# Altium schematic symbol library WR-TBL_Spring Clamp.SchLib: 367 symbols (part 6 of 6)
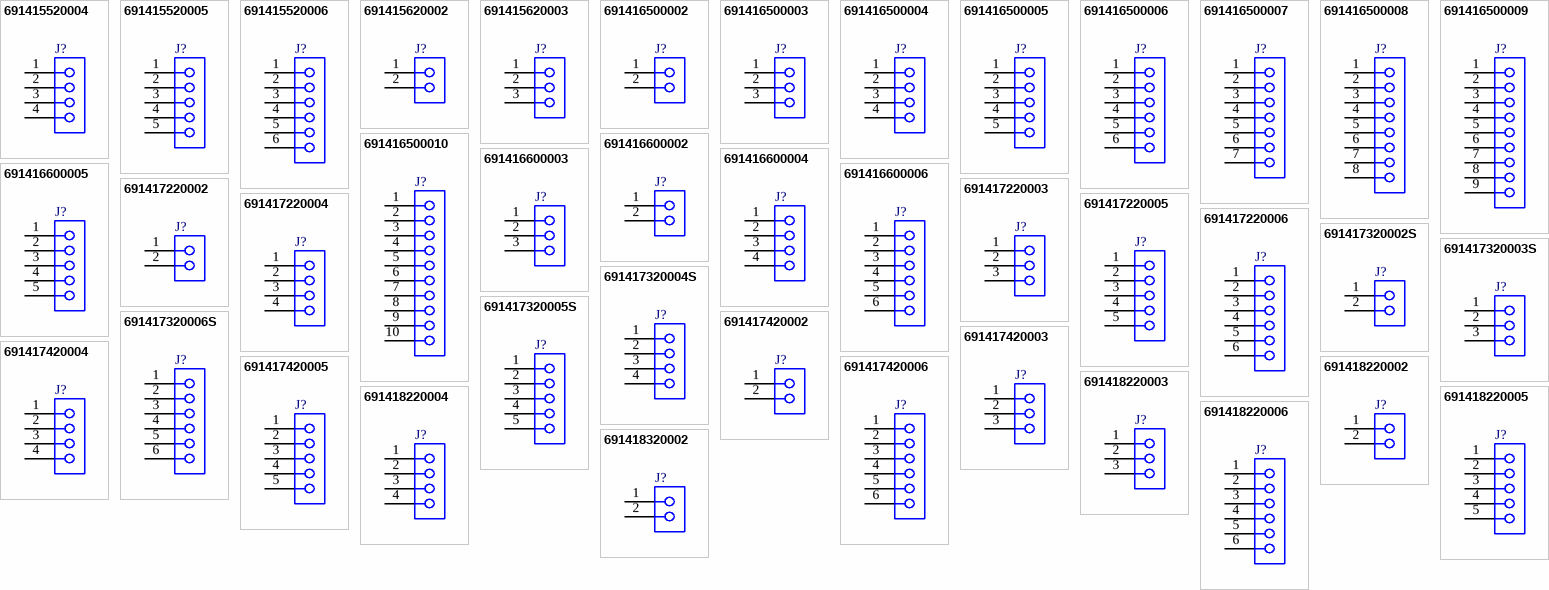
[diagram p14: symbols 691415520004 to 691418320002]

## 691417320005S
designator J?  (value not drawn)
WR-TBL Series 4173S 45° Cable Entry, THT, pitch 3.81mm, 05p; Manufacturer: Wurth Elektronik; Modularity: No; Rated Current: 4A; Wire Section: 16 to 30 (AWG) 1.31 to 0.0509 (mm^2); Working Voltage: 300V (AC); Manufacturer Part Number: 691417320005S; Product Series: WR-TBL; ComponentLink1Description: Website Link; ComponentLink1URL: https://www.we-online.com; ComponentLink2Description: Datasheet Link; ComponentLink2URL: https://www.we-online.com/components/products/datasheet/691417320005S; Mount: Through Hole; Operating Temperature Min: -30degC; Operating Temperature Max: 120degC; Packaging: Box; Application: Screwless; Number of Pins: 5; Number of Rows: 1; Orientation: 45deg; Lead Pitch: 3.81mm
footprint 691417320005S
pins: 1, 2, 3, 4, 5

## 691417320006S
designator J?  (value not drawn)
WR-TBL Series 4173S 45° Cable Entry, THT, pitch 3.81mm, 06p; Manufacturer: Wurth Elektronik; Modularity: No; Rated Current: 4A; Wire Section: 16 to 30 (AWG) 1.31 to 0.0509 (mm^2); Working Voltage: 300V (AC); Manufacturer Part Number: 691417320006S; Product Series: WR-TBL; ComponentLink1Description: Website Link; ComponentLink1URL: https://www.we-online.com; ComponentLink2Description: Datasheet Link; ComponentLink2URL: https://www.we-online.com/components/products/datasheet/691417320006S; Mount: Through Hole; Operating Temperature Min: -30degC; Operating Temperature Max: 120degC; Packaging: Box; Application: Screwless; Number of Pins: 6; Number of Rows: 1; Orientation: 45deg; Lead Pitch: 3.81mm
footprint 691417320006S
pins: 1, 2, 3, 4, 5, 6

## 691417420002
designator J?  (value not drawn)
WR-TBL Series 4174 45° Entry, THT, pitch 7.62mm, 02p; Manufacturer: Wurth Elektronik; Modularity: No; Rated Current: 4A; Wire Section: 16 to 30 (AWG) 1.31 to 0.0509 (mm^2); Working Voltage: 300V (AC); Manufacturer Part Number: 691417420002; Product Series: WR-TBL; ComponentLink1Description: Website Link; ComponentLink1URL: https://www.we-online.com; ComponentLink2Description: Datasheet Link; ComponentLink2URL: https://www.we-online.com/components/products/datasheet/691417420002; Mount: Through Hole; Operating Temperature Min: -30degC; Operating Temperature Max: 120degC; Packaging: Box; Application: Screwless; Number of Pins: 2; Number of Rows: 1; Orientation: 45deg; Lead Pitch: 7.62mm
footprint 691417420002
pins: 1, 2

## 691417420003
designator J?  (value not drawn)
WR-TBL Series 4174 45° Entry, THT, pitch 7.62mm, 03p; Manufacturer: Wurth Elektronik; Modularity: No; Rated Current: 4A; Wire Section: 16 to 30 (AWG) 1.31 to 0.0509 (mm^2); Working Voltage: 300V (AC); Manufacturer Part Number: 691417420003; Product Series: WR-TBL; ComponentLink1Description: Website Link; ComponentLink1URL: https://www.we-online.com; ComponentLink2Description: Datasheet Link; ComponentLink2URL: https://www.we-online.com/components/products/datasheet/691417420003; Mount: Through Hole; Operating Temperature Min: -30degC; Operating Temperature Max: 120degC; Packaging: Box; Application: Screwless; Number of Pins: 3; Number of Rows: 1; Orientation: 45deg; Lead Pitch: 7.62mm
footprint 691417420003
pins: 1, 2, 3

## 691417420004
designator J?  (value not drawn)
WR-TBL Series 4174 45° Entry, THT, pitch 7.62mm, 04p; Manufacturer: Wurth Elektronik; Modularity: No; Rated Current: 4A; Wire Section: 16 to 30 (AWG) 1.31 to 0.0509 (mm^2); Working Voltage: 300V (AC); Manufacturer Part Number: 691417420004; Product Series: WR-TBL; ComponentLink1Description: Website Link; ComponentLink1URL: https://www.we-online.com; ComponentLink2Description: Datasheet Link; ComponentLink2URL: https://www.we-online.com/components/products/datasheet/691417420004; Mount: Through Hole; Operating Temperature Min: -30degC; Operating Temperature Max: 120degC; Packaging: Box; Application: Screwless; Number of Pins: 4; Number of Rows: 1; Orientation: 45deg; Lead Pitch: 7.62mm
footprint 691417420004
pins: 1, 2, 3, 4

## 691417420005
designator J?  (value not drawn)
WR-TBL Series 4174 45° Entry, THT, pitch 7.62mm, 05p; Manufacturer: Wurth Elektronik; Modularity: No; Rated Current: 4A; Wire Section: 16 to 30 (AWG) 1.31 to 0.0509 (mm^2); Working Voltage: 300V (AC); Manufacturer Part Number: 691417420005; Product Series: WR-TBL; ComponentLink1Description: Website Link; ComponentLink1URL: https://www.we-online.com; ComponentLink2Description: Datasheet Link; ComponentLink2URL: https://www.we-online.com/components/products/datasheet/691417420005; Mount: Through Hole; Operating Temperature Min: -30degC; Operating Temperature Max: 120degC; Packaging: Box; Application: Screwless; Number of Pins: 5; Number of Rows: 1; Orientation: 45deg; Lead Pitch: 7.62mm
footprint 691417420005
pins: 1, 2, 3, 4, 5

## 691417420006
designator J?  (value not drawn)
WR-TBL Series 4174 45° Entry, THT, pitch 7.62mm, 06p; Manufacturer: Wurth Elektronik; Modularity: No; Rated Current: 4A; Wire Section: 16 to 30 (AWG) 1.31 to 0.0509 (mm^2); Working Voltage: 300V (AC); Manufacturer Part Number: 691417420006; Product Series: WR-TBL; ComponentLink1Description: Website Link; ComponentLink1URL: https://www.we-online.com; ComponentLink2Description: Datasheet Link; ComponentLink2URL: https://www.we-online.com/components/products/datasheet/691417420006; Mount: Through Hole; Operating Temperature Min: -30degC; Operating Temperature Max: 120degC; Packaging: Box; Application: Screwless; Number of Pins: 6; Number of Rows: 1; Orientation: 45deg; Lead Pitch: 7.62mm
footprint 691417420006
pins: 1, 2, 3, 4, 5, 6

## 691418220002
designator J?  (value not drawn)
WR-TBL Series 4182 45° Cable Entry, THT, pitch 7mm, 02p; Manufacturer: Wurth Elektronik; Modularity: No; Rated Current: 4A; Wire Section: 16 to 30 (AWG) 1.31 to 0.0509 (mm^2); Working Voltage: 300V (AC); Manufacturer Part Number: 691418220002; Product Series: WR-TBL; ComponentLink1Description: Website Link; ComponentLink1URL: https://www.we-online.com; ComponentLink2Description: Datasheet Link; ComponentLink2URL: https://www.we-online.com/components/products/datasheet/691418220002; Mount: Through Hole; Operating Temperature Min: -30degC; Operating Temperature Max: 120degC; Packaging: Box; Application: Screwless; Number of Pins: 2; Number of Rows: 1; Orientation: 45deg; Lead Pitch: 7mm
footprint 691418220002
pins: 1, 2

## 691418220003
designator J?  (value not drawn)
WR-TBL Series 4182 45° Cable Entry, THT, pitch 7mm, 03p; Manufacturer: Wurth Elektronik; Modularity: No; Rated Current: 4A; Wire Section: 16 to 30 (AWG) 1.31 to 0.0509 (mm^2); Working Voltage: 300V (AC); Manufacturer Part Number: 691418220003; Product Series: WR-TBL; ComponentLink1Description: Website Link; ComponentLink1URL: https://www.we-online.com; ComponentLink2Description: Datasheet Link; ComponentLink2URL: https://www.we-online.com/components/products/datasheet/691418220003; Mount: Through Hole; Operating Temperature Min: -30degC; Operating Temperature Max: 120degC; Packaging: Box; Application: Screwless; Number of Pins: 3; Number of Rows: 1; Orientation: 45deg; Lead Pitch: 7mm
footprint 691418220003
pins: 1, 2, 3

## 691418220004
designator J?  (value not drawn)
WR-TBL Series 4182 45° Cable Entry, THT, pitch 7mm, 04p; Manufacturer: Wurth Elektronik; Modularity: No; Rated Current: 4A; Wire Section: 16 to 30 (AWG) 1.31 to 0.0509 (mm^2); Working Voltage: 300V (AC); Manufacturer Part Number: 691418220004; Product Series: WR-TBL; ComponentLink1Description: Website Link; ComponentLink1URL: https://www.we-online.com; ComponentLink2Description: Datasheet Link; ComponentLink2URL: https://www.we-online.com/components/products/datasheet/691418220004; Mount: Through Hole; Operating Temperature Min: -30degC; Operating Temperature Max: 120degC; Packaging: Box; Application: Screwless; Number of Pins: 4; Number of Rows: 1; Orientation: 45deg; Lead Pitch: 7mm
footprint 691418220004
pins: 1, 2, 3, 4

## 691418220005
designator J?  (value not drawn)
WR-TBL Series 4182 45° Cable Entry, THT, pitch 7mm, 05p; Manufacturer: Wurth Elektronik; Modularity: No; Rated Current: 4A; Wire Section: 16 to 30 (AWG) 1.31 to 0.0509 (mm^2); Working Voltage: 300V (AC); Manufacturer Part Number: 691418220005; Product Series: WR-TBL; ComponentLink1Description: Website Link; ComponentLink1URL: https://www.we-online.com; ComponentLink2Description: Datasheet Link; ComponentLink2URL: https://www.we-online.com/components/products/datasheet/691418220005; Mount: Through Hole; Operating Temperature Min: -30degC; Operating Temperature Max: 120degC; Packaging: Box; Application: Screwless; Number of Pins: 5; Number of Rows: 1; Orientation: 45deg; Lead Pitch: 7mm
footprint 691418220005
pins: 1, 2, 3, 4, 5

## 691418220006
designator J?  (value not drawn)
WR-TBL Series 4182 45° Cable Entry, THT, pitch 7mm, 06p; Manufacturer: Wurth Elektronik; Modularity: No; Rated Current: 4A; Wire Section: 16 to 30 (AWG) 1.31 to 0.0509 (mm^2); Working Voltage: 300V (AC); Manufacturer Part Number: 691418220006; Product Series: WR-TBL; ComponentLink1Description: Website Link; ComponentLink1URL: https://www.we-online.com; ComponentLink2Description: Datasheet Link; ComponentLink2URL: https://www.we-online.com/components/products/datasheet/691418220006; Mount: Through Hole; Operating Temperature Min: -30degC; Operating Temperature Max: 120degC; Packaging: Box; Application: Screwless; Number of Pins: 6; Number of Rows: 1; Orientation: 45deg; Lead Pitch: 7mm
footprint 691418220006
pins: 1, 2, 3, 4, 5, 6

## 691418320002
designator J?  (value not drawn)
WR-TBL Series 4183 45° Cable Entry, THT, pitch 3.81mm, 02p; Manufacturer: Wurth Elektronik; Modularity: No; Rated Current: 4A; Wire Section: 16 to 30 (AWG) 1.31 to 0.0509 (mm^2); Working Voltage: 300V (AC); Manufacturer Part Number: 691418320002; Product Series: WR-TBL; ComponentLink1Description: Website Link; ComponentLink1URL: https://www.we-online.com; ComponentLink2Description: Datasheet Link; ComponentLink2URL: https://www.we-online.com/components/products/datasheet/691418320002; Mount: Through Hole; Operating Temperature Min: -30degC; Operating Temperature Max: 120degC; Packaging: Box; Application: Screwless; Number of Pins: 2; Number of Rows: 1; Orientation: 45deg; Lead Pitch: 3.81mm
footprint 691418320002
pins: 1, 2

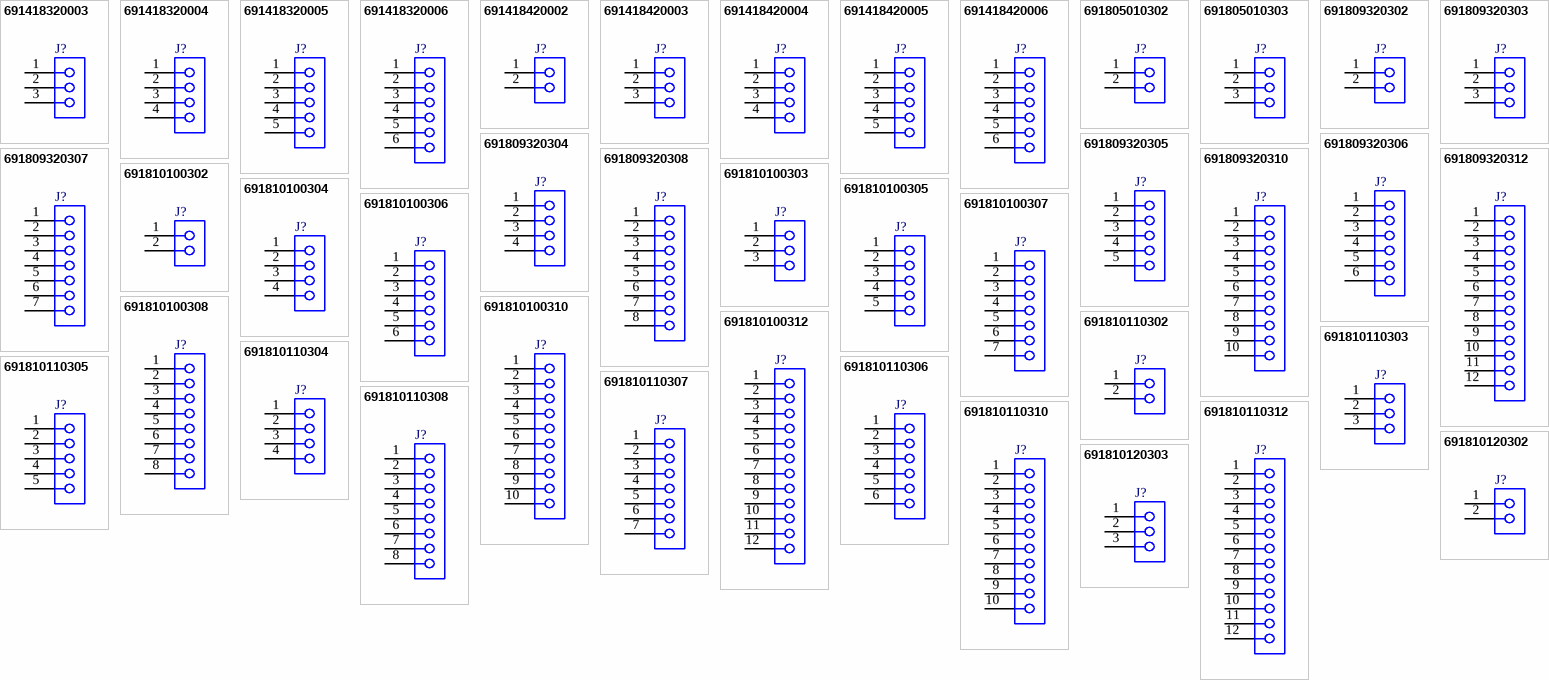
[diagram p8: symbols 691418320003 to 691810120303]

## 691418320003
designator J?  (value not drawn)
WR-TBL Series 4183 45° Cable Entry, THT, pitch 3.81mm, 03p; Manufacturer: Wurth Elektronik; Modularity: No; Rated Current: 4A; Wire Section: 16 to 30 (AWG) 1.31 to 0.0509 (mm^2); Working Voltage: 300V (AC); Manufacturer Part Number: 691418320003; Product Series: WR-TBL; ComponentLink1Description: Website Link; ComponentLink1URL: https://www.we-online.com; ComponentLink2Description: Datasheet Link; ComponentLink2URL: https://www.we-online.com/components/products/datasheet/691418320003; Mount: Through Hole; Operating Temperature Min: -30degC; Operating Temperature Max: 120degC; Packaging: Box; Application: Screwless; Number of Pins: 3; Number of Rows: 1; Orientation: 45deg; Lead Pitch: 3.81mm
footprint 691418320003
pins: 1, 2, 3

## 691418320004
designator J?  (value not drawn)
WR-TBL Series 4183 45° Cable Entry, THT, pitch 3.81mm, 04p; Manufacturer: Wurth Elektronik; Modularity: No; Rated Current: 4A; Wire Section: 16 to 30 (AWG) 1.31 to 0.0509 (mm^2); Working Voltage: 300V (AC); Manufacturer Part Number: 691418320004; Product Series: WR-TBL; ComponentLink1Description: Website Link; ComponentLink1URL: https://www.we-online.com; ComponentLink2Description: Datasheet Link; ComponentLink2URL: https://www.we-online.com/components/products/datasheet/691418320004; Mount: Through Hole; Operating Temperature Min: -30degC; Operating Temperature Max: 120degC; Packaging: Box; Application: Screwless; Number of Pins: 4; Number of Rows: 1; Orientation: 45deg; Lead Pitch: 3.81mm
footprint 691418320004
pins: 1, 2, 3, 4

## 691418320005
designator J?  (value not drawn)
WR-TBL Series 4183 45° Cable Entry, THT, pitch 3.81mm, 05p; Manufacturer: Wurth Elektronik; Modularity: No; Rated Current: 4A; Wire Section: 16 to 30 (AWG) 1.31 to 0.0509 (mm^2); Working Voltage: 300V (AC); Manufacturer Part Number: 691418320005; Product Series: WR-TBL; ComponentLink1Description: Website Link; ComponentLink1URL: https://www.we-online.com; ComponentLink2Description: Datasheet Link; ComponentLink2URL: https://www.we-online.com/components/products/datasheet/691418320005; Mount: Through Hole; Operating Temperature Min: -30degC; Operating Temperature Max: 120degC; Packaging: Box; Application: Screwless; Number of Pins: 5; Number of Rows: 1; Orientation: 45deg; Lead Pitch: 3.81mm
footprint 691418320005
pins: 1, 2, 3, 4, 5

## 691418320006
designator J?  (value not drawn)
WR-TBL Series 4183 45° Cable Entry, THT, pitch 3.81mm, 06p; Manufacturer: Wurth Elektronik; Modularity: No; Rated Current: 4A; Wire Section: 16 to 30 (AWG) 1.31 to 0.0509 (mm^2); Working Voltage: 300V (AC); Manufacturer Part Number: 691418320006; Product Series: WR-TBL; ComponentLink1Description: Website Link; ComponentLink1URL: https://www.we-online.com; ComponentLink2Description: Datasheet Link; ComponentLink2URL: https://www.we-online.com/components/products/datasheet/691418320006; Mount: Through Hole; Operating Temperature Min: -30degC; Operating Temperature Max: 120degC; Packaging: Box; Application: Screwless; Number of Pins: 6; Number of Rows: 1; Orientation: 45deg; Lead Pitch: 3.81mm
footprint 691418320006
pins: 1, 2, 3, 4, 5, 6

## 691418420002
designator J?  (value not drawn)
WR-TBL Series 4184 45° Entry, THT, pitch 7.62mm, 02p; Manufacturer: Wurth Elektronik; Modularity: No; Rated Current: 4A; Wire Section: 16 to 30 (AWG) 1.31 to 0.0509 (mm^2); Working Voltage: 300V (AC); Manufacturer Part Number: 691418420002; Product Series: WR-TBL; ComponentLink1Description: Website Link; ComponentLink1URL: https://www.we-online.com; ComponentLink2Description: Datasheet Link; ComponentLink2URL: https://www.we-online.com/components/products/datasheet/691418420002; Mount: Through Hole; Operating Temperature Min: -30degC; Operating Temperature Max: 120degC; Packaging: Box; Application: Screwless; Number of Pins: 2; Number of Rows: 1; Orientation: 45deg; Lead Pitch: 7.62mm
footprint 691418420002
pins: 1, 2

## 691418420003
designator J?  (value not drawn)
WR-TBL Series 4184 45° Entry, THT, pitch 7.62mm, 03p; Manufacturer: Wurth Elektronik; Modularity: No; Rated Current: 4A; Wire Section: 16 to 30 (AWG) 1.31 to 0.0509 (mm^2); Working Voltage: 300V (AC); Manufacturer Part Number: 691418420003; Product Series: WR-TBL; ComponentLink1Description: Website Link; ComponentLink1URL: https://www.we-online.com; ComponentLink2Description: Datasheet Link; ComponentLink2URL: https://www.we-online.com/components/products/datasheet/691418420003; Mount: Through Hole; Operating Temperature Min: -30degC; Operating Temperature Max: 120degC; Packaging: Box; Application: Screwless; Number of Pins: 3; Number of Rows: 1; Orientation: 45deg; Lead Pitch: 7.62mm
footprint 691418420003
pins: 1, 2, 3

## 691418420004
designator J?  (value not drawn)
WR-TBL Series 4184 45° Entry, THT, pitch 7.62mm, 04p; Manufacturer: Wurth Elektronik; Modularity: No; Rated Current: 4A; Wire Section: 16 to 30 (AWG) 1.31 to 0.0509 (mm^2); Working Voltage: 300V (AC); Manufacturer Part Number: 691418420004; Product Series: WR-TBL; ComponentLink1Description: Website Link; ComponentLink1URL: https://www.we-online.com; ComponentLink2Description: Datasheet Link; ComponentLink2URL: https://www.we-online.com/components/products/datasheet/691418420004; Mount: Through Hole; Operating Temperature Min: -30degC; Operating Temperature Max: 120degC; Packaging: Box; Application: Screwless; Number of Pins: 4; Number of Rows: 1; Orientation: 45deg; Lead Pitch: 7.62mm
footprint 691418420004
pins: 1, 2, 3, 4

## 691418420005
designator J?  (value not drawn)
WR-TBL Series 4184 45° Entry, THT, pitch 7.62mm, 05p; Manufacturer: Wurth Elektronik; Modularity: No; Rated Current: 4A; Wire Section: 16 to 30 (AWG) 1.31 to 0.0509 (mm^2); Working Voltage: 300V (AC); Manufacturer Part Number: 691418420005; Product Series: WR-TBL; ComponentLink1Description: Website Link; ComponentLink1URL: https://www.we-online.com; ComponentLink2Description: Datasheet Link; ComponentLink2URL: https://www.we-online.com/components/products/datasheet/691418420005; Mount: Through Hole; Operating Temperature Min: -30degC; Operating Temperature Max: 120degC; Packaging: Box; Application: Screwless; Number of Pins: 5; Number of Rows: 1; Orientation: 45deg; Lead Pitch: 7.62mm
footprint 691418420005
pins: 1, 2, 3, 4, 5

## 691418420006
designator J?  (value not drawn)
WR-TBL Series 4184 45° Entry, THT, pitch 7.62mm, 06p; Manufacturer: Wurth Elektronik; Modularity: No; Rated Current: 4A; Wire Section: 16 to 30 (AWG) 1.31 to 0.0509 (mm^2); Working Voltage: 300V (AC); Manufacturer Part Number: 691418420006; Product Series: WR-TBL; ComponentLink1Description: Website Link; ComponentLink1URL: https://www.we-online.com; ComponentLink2Description: Datasheet Link; ComponentLink2URL: https://www.we-online.com/components/products/datasheet/691418420006; Mount: Through Hole; Operating Temperature Min: -30degC; Operating Temperature Max: 120degC; Packaging: Box; Application: Screwless; Number of Pins: 6; Number of Rows: 1; Orientation: 45deg; Lead Pitch: 7.62mm
footprint 691418420006
pins: 1, 2, 3, 4, 5, 6

## 691805010302
designator J?  (value not drawn)
WR-TBL Series 7097 Horizontal Entry, SMT, pitch 2.5mm, 02p; Manufacturer: Wurth Elektronik; Modularity: No; Rated Current: 6A; Wire Section: 24 to 20 (AWG) 0.2 to 0.5 (mm^2); Working Voltage: 300V (AC); Manufacturer Part Number: 691805010302; Product Series: WR-TBL; ComponentLink1Description: Website Link; ComponentLink1URL: https://www.we-online.com; ComponentLink2Description: Datasheet Link; ComponentLink2URL: https://www.we-online.com/components/products/datasheet/691805010302; Mount: Surface Mount; Operating Temperature Min: -45degC; Operating Temperature Max: 130degC; Packaging: Tape and Reel; Application: Screwless; Number of Pins: 2; Number of Rows: 1; Orientation: Horizontal; Lead Pitch: 2.5mm
footprint 691805010302
pins: 1, 2

## 691805010303
designator J?  (value not drawn)
WR-TBL Series 7097 Horizontal Entry, SMT, pitch 2.5mm, 03p; Manufacturer: Wurth Elektronik; Modularity: No; Rated Current: 6A; Wire Section: 24 to 20 (AWG) 0.2 to 0.5 (mm^2); Working Voltage: 300V (AC); Manufacturer Part Number: 691805010303; Product Series: WR-TBL; ComponentLink1Description: Website Link; ComponentLink1URL: https://www.we-online.com; ComponentLink2Description: Datasheet Link; ComponentLink2URL: https://www.we-online.com/components/products/datasheet/691805010303; Mount: Surface Mount; Operating Temperature Min: -45degC; Operating Temperature Max: 130degC; Packaging: Tape and Reel; Application: Screwless; Number of Pins: 3; Number of Rows: 1; Orientation: Horizontal; Lead Pitch: 2.5mm
footprint 691805010303
pins: 1, 2, 3

## 691809320302
designator J?  (value not drawn)
WR-TBL Series 8093 Screwless Push In 45° cable entry, THR, pitch 3.81mm, 02p; Manufacturer: Wurth Elektronik; Modularity: Yes; Wire Section: 26 to 16 (AWG) 0.2 to 1.5 (mm^2); Manufacturer Part Number: 691809320302; Product Series: WR-TBL; ComponentLink1Description: Website Link; ComponentLink1URL: https://www.we-online.com; ComponentLink2Description: Datasheet Link; ComponentLink2URL: https://www.we-online.com/components/products/datasheet/691809320302; Mount: Through Hole Reflow; Operating Temperature Min: -40degC; Operating Temperature Max: 115degC; Packaging: Tape and Reel; Application: Screwless Push In; Number of Pins: 2; Number of Rows: 1; Orientation: 45deg Cable Entry; Lead Pitch: 3.81mm
footprint 691809320302
pins: 1, 2

## 691809320303
designator J?  (value not drawn)
WR-TBL Series 8093 Screwless Push In 45° cable entry, THR, pitch 3.81mm, 03p; Manufacturer: Wurth Elektronik; Modularity: Yes; Wire Section: 26 to 16 (AWG) 0.2 to 1.5 (mm^2); Manufacturer Part Number: 691809320303; Product Series: WR-TBL; ComponentLink1Description: Website Link; ComponentLink1URL: https://www.we-online.com; ComponentLink2Description: Datasheet Link; ComponentLink2URL: https://www.we-online.com/components/products/datasheet/691809320303; Mount: Through Hole Reflow; Operating Temperature Min: -40degC; Operating Temperature Max: 115degC; Packaging: Tape and Reel; Application: Screwless Push In; Number of Pins: 3; Number of Rows: 1; Orientation: 45deg Cable Entry; Lead Pitch: 3.81mm
footprint 691809320303
pins: 1, 2, 3

## 691809320304
designator J?  (value not drawn)
WR-TBL Series 8093 Screwless Push In 45° cable entry, THR, pitch 3.81mm, 04p; Manufacturer: Wurth Elektronik; Modularity: Yes; Wire Section: 26 to 16 (AWG) 0.2 to 1.5 (mm^2); Manufacturer Part Number: 691809320304; Product Series: WR-TBL; ComponentLink1Description: Website Link; ComponentLink1URL: https://www.we-online.com; ComponentLink2Description: Datasheet Link; ComponentLink2URL: https://www.we-online.com/components/products/datasheet/691809320304; Mount: Through Hole Reflow; Operating Temperature Min: -40degC; Operating Temperature Max: 115degC; Packaging: Tape and Reel; Application: Screwless Push In; Number of Pins: 4; Number of Rows: 1; Orientation: 45deg Cable Entry; Lead Pitch: 3.81mm
footprint 691809320304
pins: 1, 2, 3, 4

## 691809320305
designator J?  (value not drawn)
WR-TBL Series 8093 Screwless Push In 45° cable entry, THR, pitch 3.81mm, 05p; Manufacturer: Wurth Elektronik; Modularity: Yes; Wire Section: 26 to 16 (AWG) 0.2 to 1.5 (mm^2); Manufacturer Part Number: 691809320305; Product Series: WR-TBL; ComponentLink1Description: Website Link; ComponentLink1URL: https://www.we-online.com; ComponentLink2Description: Datasheet Link; ComponentLink2URL: https://www.we-online.com/components/products/datasheet/691809320305; Mount: Through Hole Reflow; Operating Temperature Min: -40degC; Operating Temperature Max: 115degC; Packaging: Tape and Reel; Application: Screwless Push In; Number of Pins: 5; Number of Rows: 1; Orientation: 45deg Cable Entry; Lead Pitch: 3.81mm
footprint 691809320305
pins: 1, 2, 3, 4, 5

## 691809320306
designator J?  (value not drawn)
WR-TBL Series 8093 Screwless Push In 45° cable entry, THR, pitch 3.81mm, 06p; Manufacturer: Wurth Elektronik; Modularity: Yes; Wire Section: 26 to 16 (AWG) 0.2 to 1.5 (mm^2); Manufacturer Part Number: 691809320306; Product Series: WR-TBL; ComponentLink1Description: Website Link; ComponentLink1URL: https://www.we-online.com; ComponentLink2Description: Datasheet Link; ComponentLink2URL: https://www.we-online.com/components/products/datasheet/691809320306; Mount: Through Hole Reflow; Operating Temperature Min: -40degC; Operating Temperature Max: 115degC; Packaging: Tape and Reel; Application: Screwless Push In; Number of Pins: 6; Number of Rows: 1; Orientation: 45deg Cable Entry; Lead Pitch: 3.81mm
footprint 691809320306
pins: 1, 2, 3, 4, 5, 6

## 691809320307
designator J?  (value not drawn)
WR-TBL Series 8093 Screwless Push In 45° cable entry, THR, pitch 3.81mm, 07p; Manufacturer: Wurth Elektronik; Modularity: Yes; Wire Section: 26 to 16 (AWG) 0.2 to 1.5 (mm^2); Manufacturer Part Number: 691809320307; Product Series: WR-TBL; ComponentLink1Description: Website Link; ComponentLink1URL: https://www.we-online.com; ComponentLink2Description: Datasheet Link; ComponentLink2URL: https://www.we-online.com/components/products/datasheet/691809320307; Mount: Through Hole Reflow; Operating Temperature Min: -40degC; Operating Temperature Max: 115degC; Packaging: Tape and Reel; Application: Screwless Push In; Number of Pins: 7; Number of Rows: 1; Orientation: 45deg Cable Entry; Lead Pitch: 3.81mm
footprint 691809320307
pins: 1, 2, 3, 4, 5, 6, 7

## 691809320308
designator J?  (value not drawn)
WR-TBL Series 8093 Screwless Push In 45° cable entry, THR, pitch 3.81mm, 08p; Manufacturer: Wurth Elektronik; Modularity: Yes; Wire Section: 26 to 16 (AWG) 0.2 to 1.5 (mm^2); Manufacturer Part Number: 691809320308; Product Series: WR-TBL; ComponentLink1Description: Website Link; ComponentLink1URL: https://www.we-online.com; ComponentLink2Description: Datasheet Link; ComponentLink2URL: https://www.we-online.com/components/products/datasheet/691809320308; Mount: Through Hole Reflow; Operating Temperature Min: -40degC; Operating Temperature Max: 115degC; Packaging: Tape and Reel; Application: Screwless Push In; Number of Pins: 8; Number of Rows: 1; Orientation: 45deg Cable Entry; Lead Pitch: 3.81mm
footprint 691809320308
pins: 1, 2, 3, 4, 5, 6, 7, 8

## 691809320310
designator J?  (value not drawn)
WR-TBL Series 8093 Screwless Push In 45° cable entry, THR, pitch 3.81mm, 10p; Manufacturer: Wurth Elektronik; Modularity: Yes; Wire Section: 26 to 16 (AWG) 0.2 to 1.5 (mm^2); Manufacturer Part Number: 691809320310; Product Series: WR-TBL; ComponentLink1Description: Website Link; ComponentLink1URL: https://www.we-online.com; ComponentLink2Description: Datasheet Link; ComponentLink2URL: https://www.we-online.com/components/products/datasheet/691809320310; Mount: Through Hole Reflow; Operating Temperature Min: -40degC; Operating Temperature Max: 115degC; Packaging: Tape and Reel; Application: Screwless Push In; Number of Pins: 10; Number of Rows: 1; Orientation: 45deg Cable Entry; Lead Pitch: 3.81mm
footprint 691809320310
pins: 1, 2, 3, 4, 5, 6, 7, 8, 9, 10

## 691809320312
designator J?  (value not drawn)
WR-TBL Series 8093 Screwless Push In 45° cable entry, THR, pitch 3.81mm, 12p; Manufacturer: Wurth Elektronik; Modularity: Yes; Wire Section: 26 to 16 (AWG) 0.2 to 1.5 (mm^2); Manufacturer Part Number: 691809320312; Product Series: WR-TBL; ComponentLink1Description: Website Link; ComponentLink1URL: https://www.we-online.com; ComponentLink2Description: Datasheet Link; ComponentLink2URL: https://www.we-online.com/components/products/datasheet/691809320312; Mount: Through Hole Reflow; Operating Temperature Min: -40degC; Operating Temperature Max: 115degC; Packaging: Tape and Reel; Application: Screwless Push In; Number of Pins: 12; Number of Rows: 1; Orientation: 45deg Cable Entry; Lead Pitch: 3.81mm
footprint 691809320312
pins: 1, 2, 3, 4, 5, 6, 7, 8, 9, 10, 11, 12

## 691810100302
designator J?  (value not drawn)
WR-TBL Series 8101 Screwless Push In Vertical cable entry, THR, pitch 3.5mm, 02p; Manufacturer: Wurth Elektronik; Modularity: No; Wire Section: 22 to 16 (AWG) 0.2 to 1.5 (mm^2); Manufacturer Part Number: 691810100302; Product Series: WR-TBL; ComponentLink1Description: Website Link; ComponentLink1URL: https://www.we-online.com; ComponentLink2Description: Datasheet Link; ComponentLink2URL: https://www.we-online.com/components/products/datasheet/691810100302; Mount: Through Hole Reflow; Operating Temperature Min: -40degC; Operating Temperature Max: 125degC; Packaging: Tape and Reel; Application: Screwless Push In; Number of Pins: 2; Number of Rows: 1; Orientation: Vertical Cable Entry; Lead Pitch: 3.5mm
footprint 691810100302
pins: 1, 2

## 691810100303
designator J?  (value not drawn)
WR-TBL Series 8101 Screwless Push In Vertical cable entry, THR, pitch 3.5mm, 03p; Manufacturer: Wurth Elektronik; Modularity: No; Wire Section: 22 to 16 (AWG) 0.2 to 1.5 (mm^2); Manufacturer Part Number: 691810100303; Product Series: WR-TBL; ComponentLink1Description: Website Link; ComponentLink1URL: https://www.we-online.com; ComponentLink2Description: Datasheet Link; ComponentLink2URL: https://www.we-online.com/components/products/datasheet/691810100303; Mount: Through Hole Reflow; Operating Temperature Min: -40degC; Operating Temperature Max: 125degC; Packaging: Tape and Reel; Application: Screwless Push In; Number of Pins: 3; Number of Rows: 1; Orientation: Vertical Cable Entry; Lead Pitch: 3.5mm
footprint 691810100303
pins: 1, 2, 3

## 691810100304
designator J?  (value not drawn)
WR-TBL Series 8101 Screwless Push In Vertical cable entry, THR, pitch 3.5mm, 04p; Manufacturer: Wurth Elektronik; Modularity: No; Wire Section: 22 to 16 (AWG) 0.2 to 1.5 (mm^2); Manufacturer Part Number: 691810100304; Product Series: WR-TBL; ComponentLink1Description: Website Link; ComponentLink1URL: https://www.we-online.com; ComponentLink2Description: Datasheet Link; ComponentLink2URL: https://www.we-online.com/components/products/datasheet/691810100304; Mount: Through Hole Reflow; Operating Temperature Min: -40degC; Operating Temperature Max: 125degC; Packaging: Tape and Reel; Application: Screwless Push In; Number of Pins: 4; Number of Rows: 1; Orientation: Vertical Cable Entry; Lead Pitch: 3.5mm
footprint 691810100304
pins: 1, 2, 3, 4

## 691810100305
designator J?  (value not drawn)
WR-TBL Series 8101 Screwless Push In Vertical cable entry, THR, pitch 3.5mm, 05p; Manufacturer: Wurth Elektronik; Modularity: No; Wire Section: 22 to 16 (AWG) 0.2 to 1.5 (mm^2); Manufacturer Part Number: 691810100305; Product Series: WR-TBL; ComponentLink1Description: Website Link; ComponentLink1URL: https://www.we-online.com; ComponentLink2Description: Datasheet Link; ComponentLink2URL: https://www.we-online.com/components/products/datasheet/691810100305; Mount: Through Hole Reflow; Operating Temperature Min: -40degC; Operating Temperature Max: 125degC; Packaging: Tape and Reel; Application: Screwless Push In; Number of Pins: 5; Number of Rows: 1; Orientation: Vertical Cable Entry; Lead Pitch: 3.5mm
footprint 691810100305
pins: 1, 2, 3, 4, 5

## 691810100306
designator J?  (value not drawn)
WR-TBL Series 8101 Screwless Push In Vertical cable entry, THR, pitch 3.5mm, 06p; Manufacturer: Wurth Elektronik; Modularity: No; Wire Section: 22 to 16 (AWG) 0.2 to 1.5 (mm^2); Manufacturer Part Number: 691810100306; Product Series: WR-TBL; ComponentLink1Description: Website Link; ComponentLink1URL: https://www.we-online.com; ComponentLink2Description: Datasheet Link; ComponentLink2URL: https://www.we-online.com/components/products/datasheet/691810100306; Mount: Through Hole Reflow; Operating Temperature Min: -40degC; Operating Temperature Max: 125degC; Packaging: Tape and Reel; Application: Screwless Push In; Number of Pins: 6; Number of Rows: 1; Orientation: Vertical Cable Entry; Lead Pitch: 3.5mm
footprint 691810100306
pins: 1, 2, 3, 4, 5, 6

## 691810100307
designator J?  (value not drawn)
WR-TBL Series 8101 Screwless Push In Vertical cable entry, THR, pitch 3.5mm, 07p; Manufacturer: Wurth Elektronik; Modularity: No; Wire Section: 22 to 16 (AWG) 0.2 to 1.5 (mm^2); Manufacturer Part Number: 691810100307; Product Series: WR-TBL; ComponentLink1Description: Website Link; ComponentLink1URL: https://www.we-online.com; ComponentLink2Description: Datasheet Link; ComponentLink2URL: https://www.we-online.com/components/products/datasheet/691810100307; Mount: Through Hole Reflow; Operating Temperature Min: -40degC; Operating Temperature Max: 125degC; Packaging: Tape and Reel; Application: Screwless Push In; Number of Pins: 7; Number of Rows: 1; Orientation: Vertical Cable Entry; Lead Pitch: 3.5mm
footprint 691810100307
pins: 1, 2, 3, 4, 5, 6, 7

## 691810100308
designator J?  (value not drawn)
WR-TBL Series 8101 Screwless Push In Vertical cable entry, THR, pitch 3.5mm, 08p; Manufacturer: Wurth Elektronik; Modularity: No; Wire Section: 22 to 16 (AWG) 0.2 to 1.5 (mm^2); Manufacturer Part Number: 691810100308; Product Series: WR-TBL; ComponentLink1Description: Website Link; ComponentLink1URL: https://www.we-online.com; ComponentLink2Description: Datasheet Link; ComponentLink2URL: https://www.we-online.com/components/products/datasheet/691810100308; Mount: Through Hole Reflow; Operating Temperature Min: -40degC; Operating Temperature Max: 125degC; Packaging: Tape and Reel; Application: Screwless Push In; Number of Pins: 8; Number of Rows: 1; Orientation: Vertical Cable Entry; Lead Pitch: 3.5mm
footprint 691810100308
pins: 1, 2, 3, 4, 5, 6, 7, 8

## 691810100310
designator J?  (value not drawn)
WR-TBL Series 8101 Screwless Push In Vertical cable entry, THR, pitch 3.5mm, 10p; Manufacturer: Wurth Elektronik; Modularity: No; Wire Section: 22 to 16 (AWG) 0.2 to 1.5 (mm^2); Manufacturer Part Number: 691810100310; Product Series: WR-TBL; ComponentLink1Description: Website Link; ComponentLink1URL: https://www.we-online.com; ComponentLink2Description: Datasheet Link; ComponentLink2URL: https://www.we-online.com/components/products/datasheet/691810100310; Mount: Through Hole Reflow; Operating Temperature Min: -40degC; Operating Temperature Max: 125degC; Packaging: Tape and Reel; Application: Screwless Push In; Number of Pins: 10; Number of Rows: 1; Orientation: Vertical Cable Entry; Lead Pitch: 3.5mm
footprint 691810100310
pins: 1, 2, 3, 4, 5, 6, 7, 8, 9, 10

## 691810100312
designator J?  (value not drawn)
WR-TBL Series 8101 Screwless Push In Vertical cable entry, THR, pitch 3.5mm, 12p; Manufacturer: Wurth Elektronik; Modularity: No; Wire Section: 22 to 16 (AWG) 0.2 to 1.5 (mm^2); Manufacturer Part Number: 691810100312; Product Series: WR-TBL; ComponentLink1Description: Website Link; ComponentLink1URL: https://www.we-online.com; ComponentLink2Description: Datasheet Link; ComponentLink2URL: https://www.we-online.com/components/products/datasheet/691810100312; Mount: Through Hole Reflow; Operating Temperature Min: -40degC; Operating Temperature Max: 125degC; Packaging: Tape and Reel; Application: Screwless Push In; Number of Pins: 12; Number of Rows: 1; Orientation: Vertical Cable Entry; Lead Pitch: 3.5mm
footprint 691810100312
pins: 1, 2, 3, 4, 5, 6, 7, 8, 9, 10, 11, 12

## 691810110302
designator J?  (value not drawn)
WR-TBL Series 8101 Screwless Push In Horizontal cable entry, THR, pitch 3.5mm, 02p; Manufacturer: Wurth Elektronik; Modularity: No; Wire Section: 22 to 16 (AWG) 0.2 to 1.5 (mm^2); Manufacturer Part Number: 691810110302; Product Series: WR-TBL; ComponentLink1Description: Website Link; ComponentLink1URL: https://www.we-online.com; ComponentLink2Description: Datasheet Link; ComponentLink2URL: https://www.we-online.com/components/products/datasheet/691810110302; Mount: Through Hole Reflow; Operating Temperature Min: -40degC; Operating Temperature Max: 125degC; Packaging: Tape and Reel; Application: Screwless Push In; Number of Pins: 2; Number of Rows: 1; Orientation: Horizontal Cable Entry; Lead Pitch: 3.5mm
footprint 691810110302
pins: 1, 2

## 691810110303
designator J?  (value not drawn)
WR-TBL Series 8101 Screwless Push In Horizontal cable entry, THR, pitch 3.5mm, 03p; Manufacturer: Wurth Elektronik; Modularity: No; Wire Section: 22 to 16 (AWG) 0.2 to 1.5 (mm^2); Manufacturer Part Number: 691810110303; Product Series: WR-TBL; ComponentLink1Description: Website Link; ComponentLink1URL: https://www.we-online.com; ComponentLink2Description: Datasheet Link; ComponentLink2URL: https://www.we-online.com/components/products/datasheet/691810110303; Mount: Through Hole Reflow; Operating Temperature Min: -40degC; Operating Temperature Max: 125degC; Packaging: Tape and Reel; Application: Screwless Push In; Number of Pins: 3; Number of Rows: 1; Orientation: Horizontal Cable Entry; Lead Pitch: 3.5mm
footprint 691810110303
pins: 1, 2, 3

## 691810110304
designator J?  (value not drawn)
WR-TBL Series 8101 Screwless Push In Horizontal cable entry, THR, pitch 3.5mm, 04p; Manufacturer: Wurth Elektronik; Modularity: No; Wire Section: 22 to 16 (AWG) 0.2 to 1.5 (mm^2); Manufacturer Part Number: 691810110304; Product Series: WR-TBL; ComponentLink1Description: Website Link; ComponentLink1URL: https://www.we-online.com; ComponentLink2Description: Datasheet Link; ComponentLink2URL: https://www.we-online.com/components/products/datasheet/691810110304; Mount: Through Hole Reflow; Operating Temperature Min: -40degC; Operating Temperature Max: 125degC; Packaging: Tape and Reel; Application: Screwless Push In; Number of Pins: 4; Number of Rows: 1; Orientation: Horizontal Cable Entry; Lead Pitch: 3.5mm
footprint 691810110304
pins: 1, 2, 3, 4

## 691810110305
designator J?  (value not drawn)
WR-TBL Series 8101 Screwless Push In Horizontal cable entry, THR, pitch 3.5mm, 05p; Manufacturer: Wurth Elektronik; Modularity: No; Wire Section: 22 to 16 (AWG) 0.2 to 1.5 (mm^2); Manufacturer Part Number: 691810110305; Product Series: WR-TBL; ComponentLink1Description: Website Link; ComponentLink1URL: https://www.we-online.com; ComponentLink2Description: Datasheet Link; ComponentLink2URL: https://www.we-online.com/components/products/datasheet/691810110305; Mount: Through Hole Reflow; Operating Temperature Min: -40degC; Operating Temperature Max: 125degC; Packaging: Tape and Reel; Application: Screwless Push In; Number of Pins: 5; Number of Rows: 1; Orientation: Horizontal Cable Entry; Lead Pitch: 3.5mm
footprint 691810110305
pins: 1, 2, 3, 4, 5

## 691810110306
designator J?  (value not drawn)
WR-TBL Series 8101 Screwless Push In Horizontal cable entry, THR, pitch 3.5mm, 06p; Manufacturer: Wurth Elektronik; Modularity: No; Wire Section: 22 to 16 (AWG) 0.2 to 1.5 (mm^2); Manufacturer Part Number: 691810110306; Product Series: WR-TBL; ComponentLink1Description: Website Link; ComponentLink1URL: https://www.we-online.com; ComponentLink2Description: Datasheet Link; ComponentLink2URL: https://www.we-online.com/components/products/datasheet/691810110306; Mount: Through Hole Reflow; Operating Temperature Min: -40degC; Operating Temperature Max: 125degC; Packaging: Tape and Reel; Application: Screwless Push In; Number of Pins: 6; Number of Rows: 1; Orientation: Horizontal Cable Entry; Lead Pitch: 3.5mm
footprint 691810110306
pins: 1, 2, 3, 4, 5, 6

## 691810110307
designator J?  (value not drawn)
WR-TBL Series 8101 Screwless Push In Horizontal cable entry, THR, pitch 3.5mm, 07p; Manufacturer: Wurth Elektronik; Modularity: No; Wire Section: 22 to 16 (AWG) 0.2 to 1.5 (mm^2); Manufacturer Part Number: 691810110307; Product Series: WR-TBL; ComponentLink1Description: Website Link; ComponentLink1URL: https://www.we-online.com; ComponentLink2Description: Datasheet Link; ComponentLink2URL: https://www.we-online.com/components/products/datasheet/691810110307; Mount: Through Hole Reflow; Operating Temperature Min: -40degC; Operating Temperature Max: 125degC; Packaging: Tape and Reel; Application: Screwless Push In; Number of Pins: 7; Number of Rows: 1; Orientation: Horizontal Cable Entry; Lead Pitch: 3.5mm
footprint 691810110307
pins: 1, 2, 3, 4, 5, 6, 7

## 691810110308
designator J?  (value not drawn)
WR-TBL Series 8101 Screwless Push In Horizontal cable entry, THR, pitch 3.5mm, 08p; Manufacturer: Wurth Elektronik; Modularity: No; Wire Section: 22 to 16 (AWG) 0.2 to 1.5 (mm^2); Manufacturer Part Number: 691810110308; Product Series: WR-TBL; ComponentLink1Description: Website Link; ComponentLink1URL: https://www.we-online.com; ComponentLink2Description: Datasheet Link; ComponentLink2URL: https://www.we-online.com/components/products/datasheet/691810110308; Mount: Through Hole Reflow; Operating Temperature Min: -40degC; Operating Temperature Max: 125degC; Packaging: Tape and Reel; Application: Screwless Push In; Number of Pins: 8; Number of Rows: 1; Orientation: Horizontal Cable Entry; Lead Pitch: 3.5mm
footprint 691810110308
pins: 1, 2, 3, 4, 5, 6, 7, 8

## 691810110310
designator J?  (value not drawn)
WR-TBL Series 8101 Screwless Push In Horizontal cable entry, THR, pitch 3.5mm, 10p; Manufacturer: Wurth Elektronik; Modularity: No; Wire Section: 22 to 16 (AWG) 0.2 to 1.5 (mm^2); Manufacturer Part Number: 691810110310; Product Series: WR-TBL; ComponentLink1Description: Website Link; ComponentLink1URL: https://www.we-online.com; ComponentLink2Description: Datasheet Link; ComponentLink2URL: https://www.we-online.com/components/products/datasheet/691810110310; Mount: Through Hole Reflow; Operating Temperature Min: -40degC; Operating Temperature Max: 125degC; Packaging: Tape and Reel; Application: Screwless Push In; Number of Pins: 10; Number of Rows: 1; Orientation: Horizontal Cable Entry; Lead Pitch: 3.5mm
footprint 691810110310
pins: 1, 2, 3, 4, 5, 6, 7, 8, 9, 10

## 691810110312
designator J?  (value not drawn)
WR-TBL Series 8101 Screwless Push In Horizontal cable entry, THR, pitch 3.5mm, 12p; Manufacturer: Wurth Elektronik; Modularity: No; Wire Section: 22 to 16 (AWG) 0.2 to 1.5 (mm^2); Manufacturer Part Number: 691810110312; Product Series: WR-TBL; ComponentLink1Description: Website Link; ComponentLink1URL: https://www.we-online.com; ComponentLink2Description: Datasheet Link; ComponentLink2URL: https://www.we-online.com/components/products/datasheet/691810110312; Mount: Through Hole Reflow; Operating Temperature Min: -40degC; Operating Temperature Max: 125degC; Packaging: Tape and Reel; Application: Screwless Push In; Number of Pins: 12; Number of Rows: 1; Orientation: Horizontal Cable Entry; Lead Pitch: 3.5mm
footprint 691810110312
pins: 1, 2, 3, 4, 5, 6, 7, 8, 9, 10, 11, 12

## 691810120302
designator J?  (value not drawn)
WR-TBL Series 8101 Screwless Push In 45° cable entry, THR, pitch 3.5mm, 02p; Manufacturer: Wurth Elektronik; Modularity: No; Wire Section: 22 to 16 (AWG) 0.2 to 1.5 (mm^2); Manufacturer Part Number: 691810120302; Product Series: WR-TBL; ComponentLink1Description: Website Link; ComponentLink1URL: https://www.we-online.com; ComponentLink2Description: Datasheet Link; ComponentLink2URL: https://www.we-online.com/components/products/datasheet/691810120302; Mount: Through Hole Reflow; Operating Temperature Min: -40degC; Operating Temperature Max: 125degC; Packaging: Tape and Reel; Application: Screwless Push In; Number of Pins: 2; Number of Rows: 1; Orientation: 45deg Cable Entry; Lead Pitch: 3.5mm
footprint 691810120302
pins: 1, 2

## 691810120303
designator J?  (value not drawn)
WR-TBL Series 8101 Screwless Push In 45° cable entry, THR, pitch 3.5mm, 03p; Manufacturer: Wurth Elektronik; Modularity: No; Wire Section: 22 to 16 (AWG) 0.2 to 1.5 (mm^2); Manufacturer Part Number: 691810120303; Product Series: WR-TBL; ComponentLink1Description: Website Link; ComponentLink1URL: https://www.we-online.com; ComponentLink2Description: Datasheet Link; ComponentLink2URL: https://www.we-online.com/components/products/datasheet/691810120303; Mount: Through Hole Reflow; Operating Temperature Min: -40degC; Operating Temperature Max: 125degC; Packaging: Tape and Reel; Application: Screwless Push In; Number of Pins: 3; Number of Rows: 1; Orientation: 45deg Cable Entry; Lead Pitch: 3.5mm
footprint 691810120303
pins: 1, 2, 3

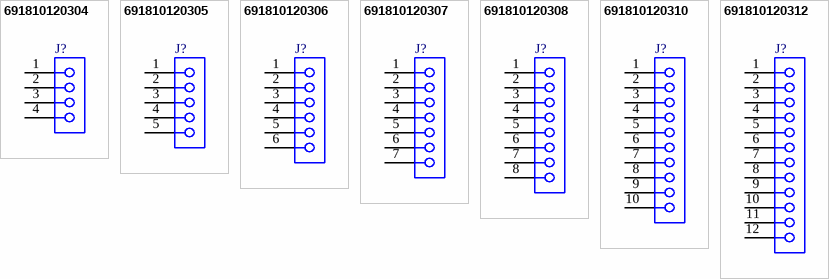
[diagram p9: symbols 691810120304 to 691810120312]

## 691810120304
designator J?  (value not drawn)
WR-TBL Series 8101 Screwless Push In 45° cable entry, THR, pitch 3.5mm, 04p; Manufacturer: Wurth Elektronik; Modularity: No; Wire Section: 22 to 16 (AWG) 0.2 to 1.5 (mm^2); Manufacturer Part Number: 691810120304; Product Series: WR-TBL; ComponentLink1Description: Website Link; ComponentLink1URL: https://www.we-online.com; ComponentLink2Description: Datasheet Link; ComponentLink2URL: https://www.we-online.com/components/products/datasheet/691810120304; Mount: Through Hole Reflow; Operating Temperature Min: -40degC; Operating Temperature Max: 125degC; Packaging: Tape and Reel; Application: Screwless Push In; Number of Pins: 4; Number of Rows: 1; Orientation: 45deg Cable Entry; Lead Pitch: 3.5mm
footprint 691810120304
pins: 1, 2, 3, 4

## 691810120305
designator J?  (value not drawn)
WR-TBL Series 8101 Screwless Push In 45° cable entry, THR, pitch 3.5mm, 05p; Manufacturer: Wurth Elektronik; Modularity: No; Wire Section: 22 to 16 (AWG) 0.2 to 1.5 (mm^2); Manufacturer Part Number: 691810120305; Product Series: WR-TBL; ComponentLink1Description: Website Link; ComponentLink1URL: https://www.we-online.com; ComponentLink2Description: Datasheet Link; ComponentLink2URL: https://www.we-online.com/components/products/datasheet/691810120305; Mount: Through Hole Reflow; Operating Temperature Min: -40degC; Operating Temperature Max: 125degC; Packaging: Tape and Reel; Application: Screwless Push In; Number of Pins: 5; Number of Rows: 1; Orientation: 45deg Cable Entry; Lead Pitch: 3.5mm
footprint 691810120305
pins: 1, 2, 3, 4, 5

## 691810120306
designator J?  (value not drawn)
WR-TBL Series 8101 Screwless Push In 45° cable entry, THR, pitch 3.5mm, 06p; Manufacturer: Wurth Elektronik; Modularity: No; Wire Section: 22 to 16 (AWG) 0.2 to 1.5 (mm^2); Manufacturer Part Number: 691810120306; Product Series: WR-TBL; ComponentLink1Description: Website Link; ComponentLink1URL: https://www.we-online.com; ComponentLink2Description: Datasheet Link; ComponentLink2URL: https://www.we-online.com/components/products/datasheet/691810120306; Mount: Through Hole Reflow; Operating Temperature Min: -40degC; Operating Temperature Max: 125degC; Packaging: Tape and Reel; Application: Screwless Push In; Number of Pins: 6; Number of Rows: 1; Orientation: 45deg Cable Entry; Lead Pitch: 3.5mm
footprint 691810120306
pins: 1, 2, 3, 4, 5, 6

## 691810120307
designator J?  (value not drawn)
WR-TBL Series 8101 Screwless Push In 45° cable entry, THR, pitch 3.5mm, 07p; Manufacturer: Wurth Elektronik; Modularity: No; Wire Section: 22 to 16 (AWG) 0.2 to 1.5 (mm^2); Manufacturer Part Number: 691810120307; Product Series: WR-TBL; ComponentLink1Description: Website Link; ComponentLink1URL: https://www.we-online.com; ComponentLink2Description: Datasheet Link; ComponentLink2URL: https://www.we-online.com/components/products/datasheet/691810120307; Mount: Through Hole Reflow; Operating Temperature Min: -40degC; Operating Temperature Max: 125degC; Packaging: Tape and Reel; Application: Screwless Push In; Number of Pins: 7; Number of Rows: 1; Orientation: 45deg Cable Entry; Lead Pitch: 3.5mm
footprint 691810120307
pins: 1, 2, 3, 4, 5, 6, 7

## 691810120308
designator J?  (value not drawn)
WR-TBL Series 8101 Screwless Push In 45° cable entry, THR, pitch 3.5mm, 08p; Manufacturer: Wurth Elektronik; Modularity: No; Wire Section: 22 to 16 (AWG) 0.2 to 1.5 (mm^2); Manufacturer Part Number: 691810120308; Product Series: WR-TBL; ComponentLink1Description: Website Link; ComponentLink1URL: https://www.we-online.com; ComponentLink2Description: Datasheet Link; ComponentLink2URL: https://www.we-online.com/components/products/datasheet/691810120308; Mount: Through Hole Reflow; Operating Temperature Min: -40degC; Operating Temperature Max: 125degC; Packaging: Tape and Reel; Application: Screwless Push In; Number of Pins: 8; Number of Rows: 1; Orientation: 45deg Cable Entry; Lead Pitch: 3.5mm
footprint 691810120308
pins: 1, 2, 3, 4, 5, 6, 7, 8

## 691810120310
designator J?  (value not drawn)
WR-TBL Series 8101 Screwless Push In 45° cable entry, THR, pitch 3.5mm, 10p; Manufacturer: Wurth Elektronik; Modularity: No; Wire Section: 22 to 16 (AWG) 0.2 to 1.5 (mm^2); Manufacturer Part Number: 691810120310; Product Series: WR-TBL; ComponentLink1Description: Website Link; ComponentLink1URL: https://www.we-online.com; ComponentLink2Description: Datasheet Link; ComponentLink2URL: https://www.we-online.com/components/products/datasheet/691810120310; Mount: Through Hole Reflow; Operating Temperature Min: -40degC; Operating Temperature Max: 125degC; Packaging: Tape and Reel; Application: Screwless Push In; Number of Pins: 10; Number of Rows: 1; Orientation: 45deg Cable Entry; Lead Pitch: 3.5mm
footprint 691810120310
pins: 1, 2, 3, 4, 5, 6, 7, 8, 9, 10

## 691810120312
designator J?  (value not drawn)
WR-TBL Series 8101 Screwless Push In 45° cable entry, THR, pitch 3.5mm, 12p; Manufacturer: Wurth Elektronik; Modularity: No; Wire Section: 22 to 16 (AWG) 0.2 to 1.5 (mm^2); Manufacturer Part Number: 691810120312; Product Series: WR-TBL; ComponentLink1Description: Website Link; ComponentLink1URL: https://www.we-online.com; ComponentLink2Description: Datasheet Link; ComponentLink2URL: https://www.we-online.com/components/products/datasheet/691810120312; Mount: Through Hole Reflow; Operating Temperature Min: -40degC; Operating Temperature Max: 125degC; Packaging: Tape and Reel; Application: Screwless Push In; Number of Pins: 12; Number of Rows: 1; Orientation: 45deg Cable Entry; Lead Pitch: 3.5mm
footprint 691810120312
pins: 1, 2, 3, 4, 5, 6, 7, 8, 9, 10, 11, 12